# EAGLE library part G06R (library resistor-sil)
SIL RESISTOR
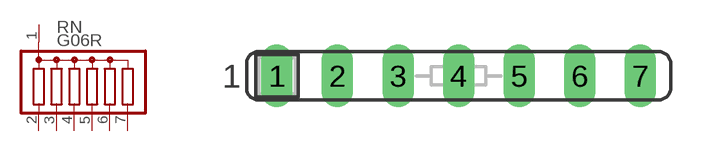
[diagram p2: symbol with the pads of SIL7; footprint SIL7]

Designator prefix RN

## G06R (OC_FARNELL: unknown; OC_NEWARK: unknown)  [SIL7]
1  1  pas
2  2  pas
3  3  pas
4  4  pas
5  5  pas
6  6  pas
7  7  pas

## Footprint SIL7 (pad centres in mm)
Single In Line
drill 0.813 long: 1 -7.62,0; 2 -5.08,0; 3 -2.54,0; 4 0,0; 5 2.54,0; 6 5.08,0; 7 7.62,0